# Altium footprint library Coil_drosel.PcbLib: 1 footprints
Each footprint in its own frame and in the unit in brackets; x right, y up, seen from the top. Pads: shape width x height; smd on the part's side, far side on the other; paste and mask are expansions set on the pad; w line width, h text height; cw(c..) or ccw(c..) is an arc to the next point about the centre after c.
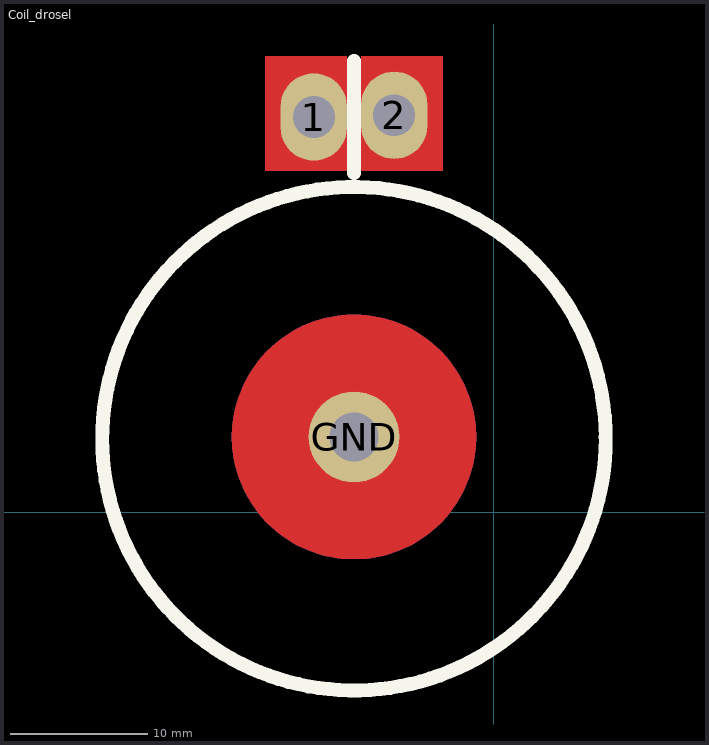
[diagram p0: the footprint, top view; thin cyan lines are the x and y axes]

## Coil_drosel [mil]
pads (3):
  oval 190x250 hole 120: 1(-515,1130) 2(-285,1135)
  round 260 hole 140: GND(-400,215)
Top Layer:
  circle w300: c-400,215 r199.81
  rectangle: -380,975 -145,1305
  rectangle: -655,975 -420,1305
Bottom Layer:
  circle w300: c-400,215 r199.81
  rectangle: -380,975 -145,1305
  rectangle: -655,975 -420,1305
Top Overlay:
  lines w40: -400,970 -400,1290 ; 320,210 cw(c-400,210) 319.98,214.74
Bottom Overlay:
  lines w40: -400,970 -400,1290 ; 320,205 cw(c-400,205) 319.98,209.74 ccw(c-400,205) 320,205
3D body "Дроссель в корпусе.STEP": height 825.53, standoff -286.53, extent -1148.03,-534.76 348.03,1175